# Altium footprint library ble_ac_rc_lib.PcbLib: 62 footprints (part 3 of 4)
Each footprint in its own frame and in the unit in brackets; x right, y up, seen from the top. Pads: shape width x height; smd on the part's side, far side on the other; paste and mask are expansions set on the pad; w line width, h text height; cw(c..) or ccw(c..) is an arc to the next point about the centre after c.
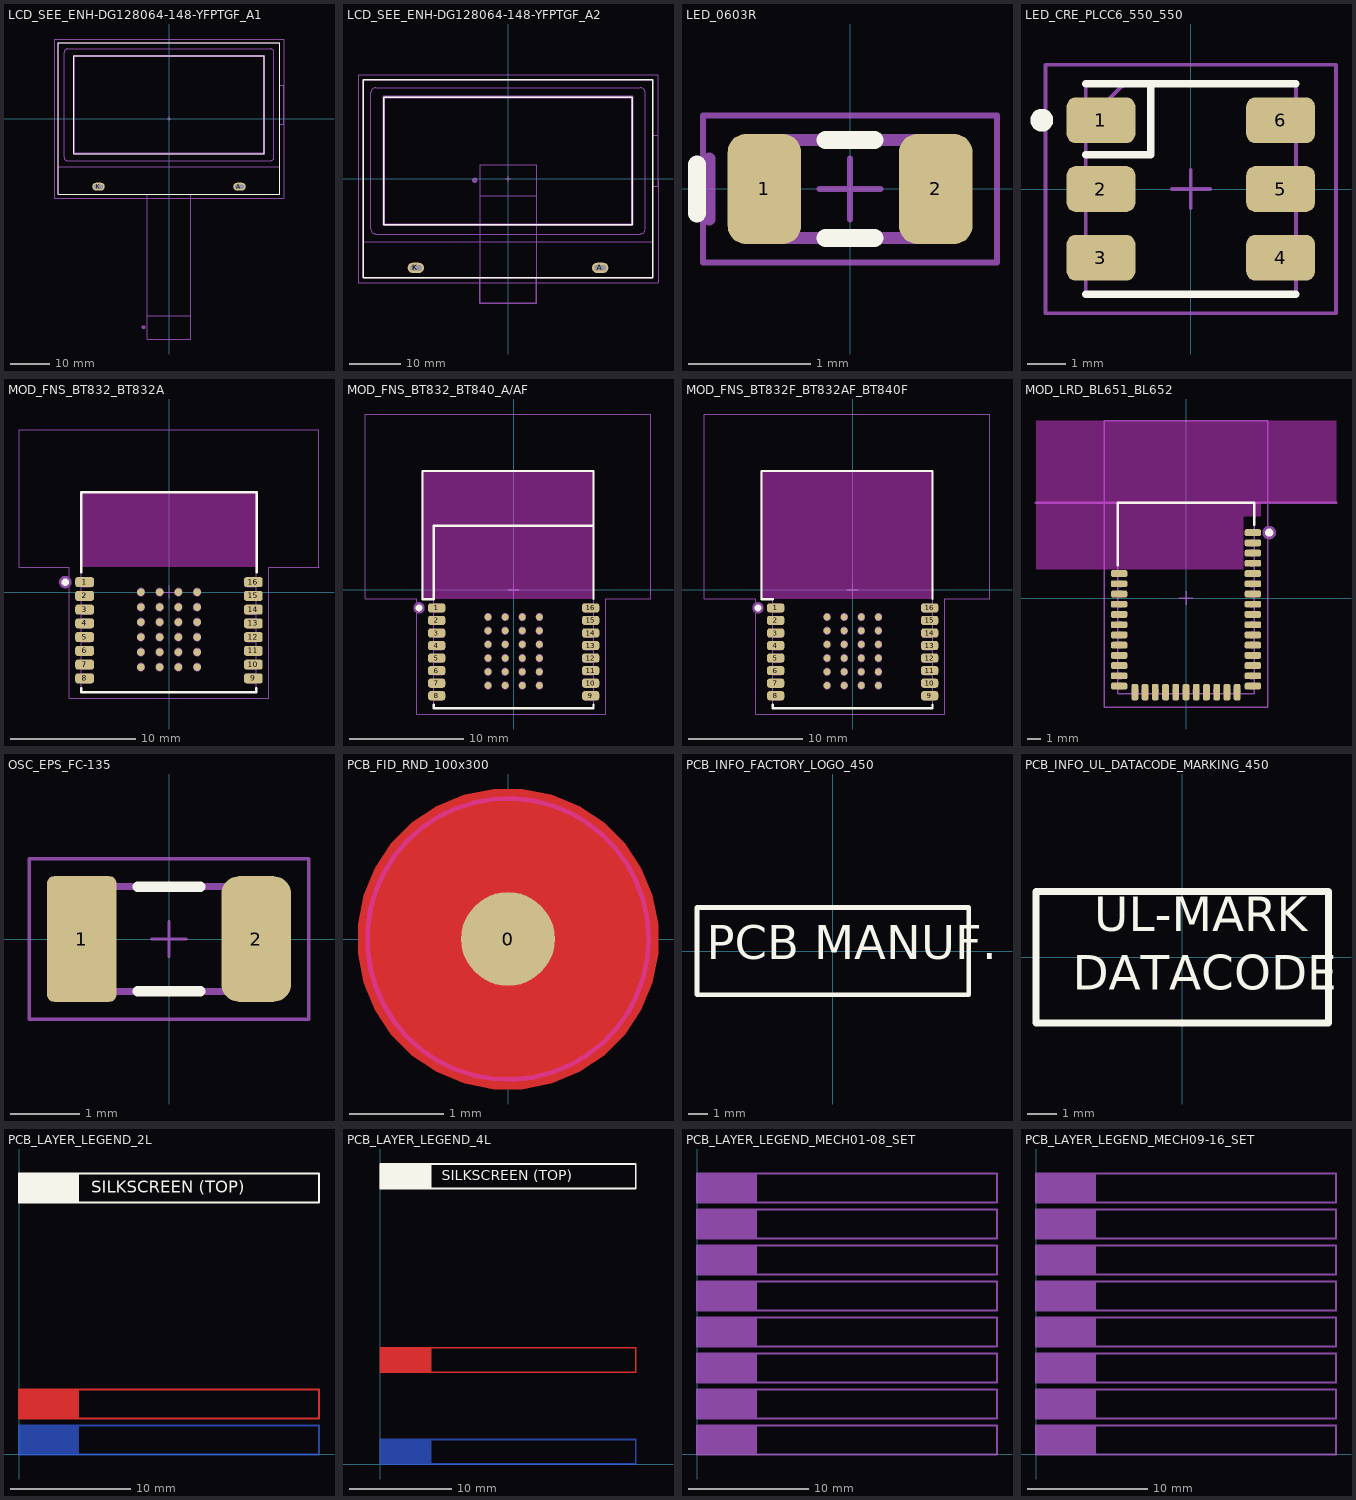
[diagram p2: the footprints below, top view; thin cyan lines are the x and y axes]

## LCD_SEE_ENH-DG128064-148-YFPTGF_A1 [mm]
pads (2):
  oval 3.2x2 hole 1 slot 2.2 at 0 deg: A(18,-17.4) K(-18,-17.4)
Silkscreen Top:
  lines w0.25: -28.3,-19.3 28.3,-19.3 28.3,19.3 -28.3,19.3 -28.3,-19.3 ; -24.305,-8.965 -24.305,15.965 24.305,15.965 24.305,-8.965 -24.305,-8.965
M17 3DBodyTop:
  circle w0.5: c-6.5,-53.3 r0.25
  lines w0.1: -5.5,-50.3 5.5,-50.3 ; -18.85,-17.7 -18.85,-17.1 -17.15,-17.1 -17.15,-17.7 -18.85,-17.7 ; -5.5,-56.3 -5.5,-19.3 5.5,-19.3 5.5,-56.3 -5.5,-56.3 ; 17.15,-17.7 18.85,-17.7 18.85,-17.1 17.15,-17.1 17.15,-17.7
  text "TOP CONTACTS" at -6.1,-58.5 h1
  text "1" at -5,-54.2 h1.5
  text "10" at 2.1,-54.2 h1.5
M21 AssemblyTHTTop:
  lines w0.1: -28.3,-12.3 28.3,-12.3 ; 28.3,-1.5 29.3,-1.5 29.3,8.5 28.3,8.5 ; -28.3,-19.3 -28.3,19.3 28.3,19.3 28.3,-19.3 -28.3,-19.3 ; -26.8,-9.8 ccw(c-25.8,-9.8) -25.8,-10.8 25.8,-10.8 ccw(c25.8,-9.8) 26.8,-9.8 26.8,16.8 ccw(c25.8,16.8) 25.8,17.8 -25.8,17.8 ccw(c-25.8,16.8) -26.8,16.8 -26.8,-9.8
  lines w0.5: -24.305,-8.965 24.305,-8.965 24.305,15.965 -24.305,15.965 -24.305,-8.965
  text ".Designator" at -12.7,-1 h3
M23 CourtyardTop:
  lines w0.1: -0.5,0 0.5,0 ; 0,-0.5 0,0.5 ; -29.3,-20.3 29.3,-20.3 29.3,20.3 -29.3,20.3 -29.3,-20.3
3D body: height 5.1, standoff 0, extent -28.3,-19.3 28.3,19.3

## LCD_SEE_ENH-DG128064-148-YFPTGF_A2 [mm]
pads (2):
  oval 3.2x2 hole 1 slot 2.2 at 0 deg: A(18,-17.4) K(-18,-17.4)
Silkscreen Top:
  lines w0.25: -28.3,-19.3 -28.3,19.3 28.3,19.3 28.3,-19.3 -28.3,-19.3 ; -24.305,-8.965 24.305,-8.965 24.305,15.965 -24.305,15.965 -24.305,-8.965
M17 3DBodyTop:
  lines w0.1: -5.5,-24.3 -5.5,-19.3 5.5,-19.3 5.5,-24.3 ; -18.85,-17.7 -17.15,-17.7 -17.15,-17.1 -18.85,-17.1 -18.85,-17.7 ; 17.15,-17.7 17.15,-17.1 18.85,-17.1 18.85,-17.7 17.15,-17.7
  lines w0.25: -5.5,-24.3 5.5,-24.3
  text "PCB EDGE" at -6,-27 h1.5
M18 3DBodyBot:
  circle w0.5: c-6.5,-0.3 r0.25
  lines w0.1: -5.5,-24.3 -5.5,2.7 5.5,2.7 5.5,-24.3 ; -5.5,-3.3 5.5,-3.3
  lines w0.25: -5.5,-24.3 5.5,-24.3
  text "PCB EDGE" at -6,-27 h1.5
  text "1" at -5,-1.2 h1.5
  text "10" at 2.1,-1.2 h1.5
  text "TOP CONTACTS" at -6.1,2.8 h1
M21 AssemblyTHTTop:
  lines w0.1: -28.3,-12.3 28.3,-12.3 ; 28.3,-1.5 29.3,-1.5 29.3,8.5 28.3,8.5 ; -28.3,-19.3 28.3,-19.3 28.3,19.3 -28.3,19.3 -28.3,-19.3 ; -26.8,-9.8 ccw(c-25.8,-9.8) -25.8,-10.8 25.8,-10.8 ccw(c25.8,-9.8) 26.8,-9.8 26.8,16.8 ccw(c25.8,16.8) 25.8,17.8 -25.8,17.8 ccw(c-25.8,16.8) -26.8,16.8 -26.8,-9.8
  lines w0.5: -24.305,-8.965 -24.305,15.965 24.305,15.965 24.305,-8.965 -24.305,-8.965
  text ".Designator" at -12.7,-1 h3
M23 CourtyardTop:
  lines w0.1: -0.5,0 0.5,0 ; 0,-0.5 0,0.5 ; -29.3,-20.3 -29.3,20.3 29.3,20.3 29.3,-20.3 -29.3,-20.3
3D body: height 5.1, standoff 0, extent -28.3,-19.3 28.3,19.3

## LED_0603R [mm]
pads (2):
  rrect50% 0.6x0.9 smd: 1(-0.7,0) 2(0.7,0)
Silkscreen Top:
  lines w0.15: -1.25,-0.2 -1.25,0.2 ; -0.2,-0.4 0.2,-0.4 ; -0.2,0.4 0.2,0.4
M19 AssemblySMDTop:
  lines w0.1: -1.15,-0.25 -1.15,0.25 ; -0.8,-0.4 0.8,-0.4 0.8,0.4 -0.8,0.4 -0.8,-0.4
  text ".Designator" at -0.6,-0.15 h0.4
M23 CourtyardTop:
  lines w0.05: -0.25,0 0.25,0 ; 0,-0.25 0,0.25 ; -1.2,-0.6 1.2,-0.6 1.2,0.6 -1.2,0.6 -1.2,-0.6
3D body "Wurth_WL-SMCD_0603.stp": height 0.4, standoff 0, extent -0.8,-0.4 0.8,0.4

## LED_CRE_PLCC6_550_550 [mm]
pads (6):
  rrect40% 1.8x1.2 smd: 1(-2.35,1.8) 2(-2.35,0) 3(-2.35,-1.8) 4(2.35,-1.8) 5(2.35,0) 6(2.35,1.8)
Silkscreen Top:
  circle w0.3: c-3.9,1.8 r0.15
  lines w0.2: -2.75,-2.75 2.75,-2.75 ; -2.75,0.9 -1.05,0.9 -1.05,2.75 ; -2.75,2.75 2.75,2.75
M19 AssemblySMDTop:
  lines w0.1: -2.75,1.75 -1.75,2.75 ; -2.75,-2.75 -2.75,2.75 2.75,2.75 2.75,-2.75 -2.75,-2.75
  text ".Designator" at -2.05,-0.45 h1.2
M23 CourtyardTop:
  lines w0.1: -0.5,0 0.5,0 ; 0,-0.5 0,0.5 ; -3.8,-3.25 3.8,-3.25 3.8,3.25 -3.8,3.25 -3.8,-3.25
3D body "CREE_SLV6A-FKB.step": height 2.6, standoff 0, extent -2.8,-2.8 2.8,2.8

## MOD_FNS_BT832_BT832A [mm]
pads (40):
  rrect50% 1.5x0.8 smd: 1(-6.75,0.8) 2(-6.75,-0.3) 3(-6.75,-1.4) 4(-6.75,-2.5) 5(-6.75,-3.6) 6(-6.75,-4.7) 7(-6.75,-5.8) 8(-6.75,-6.9) 9(6.75,-6.9) 10(6.75,-5.8) 11(6.75,-4.7) 12(6.75,-3.6) 13(6.75,-2.5) 14(6.75,-1.4) 15(6.75,-0.3) 16(6.75,0.8)
  round 0.6 smd: A0(-2.25,0) A1(-2.25,-1.2) A2(-2.25,-2.4) A3(-2.25,-3.6) A4(-2.25,-4.8) A5(-2.25,-6) B0(-0.75,0) B1(-0.75,-1.2) B2(-0.75,-2.4) B3(-0.75,-3.6) B4(-0.75,-4.8) B5(-0.75,-6) C0(0.75,0) C1(0.75,-1.2) C2(0.75,-2.4) C3(0.75,-3.6) C4(0.75,-4.8) C5(0.75,-6) D0(2.25,0) D1(2.25,-1.2) D2(2.25,-2.4) D3(2.25,-3.6) D4(2.25,-4.8) D5(2.25,-6)
Silkscreen Top:
  circle w0.3: c-8.3,0.8 r0.15
  lines w0.2: -7,-7.7 -7,-8 7,-8 7,-7.7 ; -7,1.6 -7,8 7,8 7,1.6
Keep-Out Layer:
  rectangle: -7,2 7,8
M19 AssemblySMDTop:
  circle w0.1: c-0.75,0 r0.3
  circle w0.1: c-0.75,-6 r0.3
  circle w0.1: c-0.75,-3.6 r0.3
  circle w0.1: c-0.75,-1.2 r0.3
  circle w0.1: c-0.75,-2.4 r0.3
  circle w0.1: c-0.75,-4.8 r0.3
  circle w0.1: c2.25,0 r0.3
  circle w0.1: c2.25,-6 r0.3
  circle w0.1: c2.25,-3.6 r0.3
  circle w0.1: c0.75,0 r0.3
  circle w0.1: c0.75,-6 r0.3
  circle w0.1: c0.75,-3.6 r0.3
  circle w0.1: c-2.25,0 r0.3
  circle w0.1: c-2.25,-6 r0.3
  circle w0.1: c-2.25,-3.6 r0.3
  circle w0.1: c2.25,-1.2 r0.3
  circle w0.1: c2.25,-2.4 r0.3
  circle w0.1: c2.25,-4.8 r0.3
  circle w0.1: c0.75,-1.2 r0.3
  circle w0.1: c0.75,-2.4 r0.3
  circle w0.1: c0.75,-4.8 r0.3
  circle w0.1: c-2.25,-1.2 r0.3
  circle w0.1: c-2.25,-2.4 r0.3
  circle w0.1: c-2.25,-4.8 r0.3
  circle w0.5: c-8.3,0.8 r0.25
  lines w0.1: -7,-7.25 -6.25,-7.25 -6.25,-6.55 -7,-6.55 ; -7,-6.15 -6.25,-6.15 -6.25,-5.45 -7,-5.45 ; -7,-5.05 -6.25,-5.05 -6.25,-4.35 -7,-4.35 ; -7,-3.95 -6.25,-3.95 -6.25,-3.25 -7,-3.25 ; -7,-2.85 -6.25,-2.85 -6.25,-2.15 -7,-2.15 ; -7,-1.75 -6.25,-1.75 -6.25,-1.05 -7,-1.05 ; -7,-0.65 -6.25,-0.65 -6.25,0.05 -7,0.05 ; -7,0.45 -6.25,0.45 -6.25,1.15 -7,1.15 ; 7,-7.25 6.25,-7.25 6.25,-6.55 7,-6.55 ; 7,-6.15 6.25,-6.15 6.25,-5.45 7,-5.45 ; 7,-5.05 6.25,-5.05 6.25,-4.35 7,-4.35 ; 7,-3.95 6.25,-3.95 6.25,-3.25 7,-3.25 ; 7,-2.85 6.25,-2.85 6.25,-2.15 7,-2.15 ; 7,-1.75 6.25,-1.75 6.25,-1.05 7,-1.05 ; 7,-0.65 6.25,-0.65 6.25,0.05 7,0.05 ; 7,0.45 6.25,0.45 6.25,1.15 7,1.15 ; -7,-8 7,-8 7,8 -7,8 -7,-8
  text ".Designator" at -4.45,2.2 h1
M23 CourtyardTop:
  lines w0.1: -0.5,0 0.5,0 ; 0,-0.5 0,0.5 ; -12,2 -8,2 -8,-8.5 8,-8.5 8,2 12,2 12,13 -12,13 -12,2
3D body "bt832_bt832a_bt840.stp": height 2.05, standoff 0.05, extent -7,-8 7,8

## MOD_FNS_BT832_BT840_A/AF [mm]
pads (40):
  rrect50% 1.5x0.8 smd: 1(-6.75,-1.6) 2(-6.75,-2.7) 3(-6.75,-3.8) 4(-6.75,-4.9) 5(-6.75,-6) 6(-6.75,-7.1) 7(-6.75,-8.2) 8(-6.75,-9.3) 9(6.75,-9.3) 10(6.75,-8.2) 11(6.75,-7.1) 12(6.75,-6) 13(6.75,-4.9) 14(6.75,-3.8) 15(6.75,-2.7) 16(6.75,-1.6)
  round 0.6 smd: A0(-2.25,-2.4) A1(-2.25,-3.6) A2(-2.25,-4.8) A3(-2.25,-6) A4(-2.25,-7.2) A5(-2.25,-8.4) B0(-0.75,-2.4) B1(-0.75,-3.6) B2(-0.75,-4.8) B3(-0.75,-6) B4(-0.75,-7.2) B5(-0.75,-8.4) C0(0.75,-2.4) C1(0.75,-3.6) C2(0.75,-4.8) C3(0.75,-6) C4(0.75,-7.2) C5(0.75,-8.4) D0(2.25,-2.4) D1(2.25,-3.6) D2(2.25,-4.8) D3(2.25,-6) D4(2.25,-7.2) D5(2.25,-8.4)
Silkscreen Top:
  circle w0.3: c-8.3,-1.6 r0.15
  lines w0.2: -7,-10.1 -7,-10.4 7,-10.4 7,-10.1 ; -7,-0.83 -8,-0.83 -8,10.4 7,10.4 7,-0.8 ; -7,-0.8 -7,5.6 7,5.6
Keep-Out Layer:
  rectangle: -8,-0.8 7,10.4
M19 AssemblySMDTop:
  circle w0.1: c-0.75,-2.4 r0.3
  circle w0.1: c-0.75,-8.4 r0.3
  circle w0.1: c-0.75,-6 r0.3
  circle w0.1: c-0.75,-3.6 r0.3
  circle w0.1: c-0.75,-4.8 r0.3
  circle w0.1: c-0.75,-7.2 r0.3
  circle w0.1: c2.25,-2.4 r0.3
  circle w0.1: c2.25,-8.4 r0.3
  circle w0.1: c2.25,-6 r0.3
  circle w0.1: c0.75,-2.4 r0.3
  circle w0.1: c0.75,-8.4 r0.3
  circle w0.1: c0.75,-6 r0.3
  circle w0.1: c-2.25,-2.4 r0.3
  circle w0.1: c-2.25,-8.4 r0.3
  circle w0.1: c-2.25,-6 r0.3
  circle w0.1: c2.25,-3.6 r0.3
  circle w0.1: c2.25,-4.8 r0.3
  circle w0.1: c2.25,-7.2 r0.3
  circle w0.1: c0.75,-3.6 r0.3
  circle w0.1: c0.75,-4.8 r0.3
  circle w0.1: c0.75,-7.2 r0.3
  circle w0.1: c-2.25,-3.6 r0.3
  circle w0.1: c-2.25,-4.8 r0.3
  circle w0.1: c-2.25,-7.2 r0.3
  circle w0.5: c-8.3,-1.6 r0.25
  lines w0.1: -7,-9.65 -6.25,-9.65 -6.25,-8.95 -7,-8.95 ; -7,-8.55 -6.25,-8.55 -6.25,-7.85 -7,-7.85 ; -7,-7.45 -6.25,-7.45 -6.25,-6.75 -7,-6.75 ; -7,-6.35 -6.25,-6.35 -6.25,-5.65 -7,-5.65 ; -7,-5.25 -6.25,-5.25 -6.25,-4.55 -7,-4.55 ; -7,-4.15 -6.25,-4.15 -6.25,-3.45 -7,-3.45 ; -7,-3.05 -6.25,-3.05 -6.25,-2.35 -7,-2.35 ; -7,-1.95 -6.25,-1.95 -6.25,-1.25 -7,-1.25 ; 7,-9.65 6.25,-9.65 6.25,-8.95 7,-8.95 ; 7,-8.55 6.25,-8.55 6.25,-7.85 7,-7.85 ; 7,-7.45 6.25,-7.45 6.25,-6.75 7,-6.75 ; 7,-6.35 6.25,-6.35 6.25,-5.65 7,-5.65 ; 7,-5.25 6.25,-5.25 6.25,-4.55 7,-4.55 ; 7,-4.15 6.25,-4.15 6.25,-3.45 7,-3.45 ; 7,-3.05 6.25,-3.05 6.25,-2.35 7,-2.35 ; 7,-1.95 6.25,-1.95 6.25,-1.25 7,-1.25 ; 7,5.6 -7,5.6 -7,-0.83 ; -7,-0.83 -7,-10.4 7,-10.4 7,10.4 -8,10.4 -8,-0.83 -7,-0.83
  text ".Designator" at -4.45,-0.2 h1
M23 CourtyardTop:
  lines w0.1: -0.5,0 0.5,0 ; 0,-0.5 0,0.5 ; -13,-0.8 -8.5,-0.8 -8.5,-10.9 8.05,-10.9 8.05,-0.8 12,-0.8 12,15.4 -13,15.4 -13,-0.8
3D body "bt832f_bt832af_bt840f.stp": height 2.05, standoff 0.05, extent -8,-10.4 7,10.4

## MOD_FNS_BT832F_BT832AF_BT840F [mm]
pads (40):
  rrect50% 1.5x0.8 smd: 1(-6.75,-1.6) 2(-6.75,-2.7) 3(-6.75,-3.8) 4(-6.75,-4.9) 5(-6.75,-6) 6(-6.75,-7.1) 7(-6.75,-8.2) 8(-6.75,-9.3) 9(6.75,-9.3) 10(6.75,-8.2) 11(6.75,-7.1) 12(6.75,-6) 13(6.75,-4.9) 14(6.75,-3.8) 15(6.75,-2.7) 16(6.75,-1.6)
  round 0.6 smd: A0(-2.25,-2.4) A1(-2.25,-3.6) A2(-2.25,-4.8) A3(-2.25,-6) A4(-2.25,-7.2) A5(-2.25,-8.4) B0(-0.75,-2.4) B1(-0.75,-3.6) B2(-0.75,-4.8) B3(-0.75,-6) B4(-0.75,-7.2) B5(-0.75,-8.4) C0(0.75,-2.4) C1(0.75,-3.6) C2(0.75,-4.8) C3(0.75,-6) C4(0.75,-7.2) C5(0.75,-8.4) D0(2.25,-2.4) D1(2.25,-3.6) D2(2.25,-4.8) D3(2.25,-6) D4(2.25,-7.2) D5(2.25,-8.4)
Silkscreen Top:
  circle w0.3: c-8.3,-1.6 r0.15
  lines w0.2: -7,-10.1 -7,-10.4 7,-10.4 7,-10.1 ; -7,-0.83 -8,-0.83 -8,10.4 7,10.4 7,-0.8
Keep-Out Layer:
  rectangle: -8,-0.8 7,10.4
M19 AssemblySMDTop:
  circle w0.1: c-0.75,-2.4 r0.3
  circle w0.1: c-0.75,-8.4 r0.3
  circle w0.1: c-0.75,-6 r0.3
  circle w0.1: c-0.75,-3.6 r0.3
  circle w0.1: c-0.75,-4.8 r0.3
  circle w0.1: c-0.75,-7.2 r0.3
  circle w0.1: c2.25,-2.4 r0.3
  circle w0.1: c2.25,-8.4 r0.3
  circle w0.1: c2.25,-6 r0.3
  circle w0.1: c0.75,-2.4 r0.3
  circle w0.1: c0.75,-8.4 r0.3
  circle w0.1: c0.75,-6 r0.3
  circle w0.1: c-2.25,-2.4 r0.3
  circle w0.1: c-2.25,-8.4 r0.3
  circle w0.1: c-2.25,-6 r0.3
  circle w0.1: c2.25,-3.6 r0.3
  circle w0.1: c2.25,-4.8 r0.3
  circle w0.1: c2.25,-7.2 r0.3
  circle w0.1: c0.75,-3.6 r0.3
  circle w0.1: c0.75,-4.8 r0.3
  circle w0.1: c0.75,-7.2 r0.3
  circle w0.1: c-2.25,-3.6 r0.3
  circle w0.1: c-2.25,-4.8 r0.3
  circle w0.1: c-2.25,-7.2 r0.3
  circle w0.5: c-8.3,-1.6 r0.25
  lines w0.1: -7,-9.65 -6.25,-9.65 -6.25,-8.95 -7,-8.95 ; -7,-8.55 -6.25,-8.55 -6.25,-7.85 -7,-7.85 ; -7,-7.45 -6.25,-7.45 -6.25,-6.75 -7,-6.75 ; -7,-6.35 -6.25,-6.35 -6.25,-5.65 -7,-5.65 ; -7,-5.25 -6.25,-5.25 -6.25,-4.55 -7,-4.55 ; -7,-4.15 -6.25,-4.15 -6.25,-3.45 -7,-3.45 ; -7,-3.05 -6.25,-3.05 -6.25,-2.35 -7,-2.35 ; -7,-1.95 -6.25,-1.95 -6.25,-1.25 -7,-1.25 ; 7,-9.65 6.25,-9.65 6.25,-8.95 7,-8.95 ; 7,-8.55 6.25,-8.55 6.25,-7.85 7,-7.85 ; 7,-7.45 6.25,-7.45 6.25,-6.75 7,-6.75 ; 7,-6.35 6.25,-6.35 6.25,-5.65 7,-5.65 ; 7,-5.25 6.25,-5.25 6.25,-4.55 7,-4.55 ; 7,-4.15 6.25,-4.15 6.25,-3.45 7,-3.45 ; 7,-3.05 6.25,-3.05 6.25,-2.35 7,-2.35 ; 7,-1.95 6.25,-1.95 6.25,-1.25 7,-1.25 ; -8,-0.83 -7,-0.83 -7,-10.4 7,-10.4 7,10.4 -8,10.4 -8,-0.83
  text ".Designator" at -4.45,-0.2 h1
M23 CourtyardTop:
  lines w0.1: -0.5,0 0.5,0 ; 0,-0.5 0,0.5 ; -13,-0.8 -8.5,-0.8 -8.5,-10.9 8.05,-10.9 8.05,-0.8 12,-0.8 12,15.4 -13,15.4 -13,-0.8
3D body "bt832f_bt832af_bt840f.stp": height 2.05, standoff 0.05, extent -8,-10.4 7,10.4

## MOD_LRD_BL651_BL652 [mm]
pads (39):
  rrect50% 1.2x0.5 smd: 1(4.9,4.8) 2(4.9,4.05) 3(4.9,3.3) 4(4.9,2.55) 5(4.9,1.8) 6(4.9,1.05) 7(4.9,0.3) 8(4.9,-0.45) 9(4.9,-1.2) 10(4.9,-1.95) 11(4.9,-2.7) 12(4.9,-3.45) 13(4.9,-4.2) 14(4.9,-4.95) 15(4.9,-5.7) 16(4.9,-6.45) 28(-4.9,-6.45) 29(-4.9,-5.7) 30(-4.9,-4.95) 31(-4.9,-4.2) 32(-4.9,-3.45) 33(-4.9,-2.7) 34(-4.9,-1.95) 35(-4.9,-1.2) 36(-4.9,-0.45) 37(-4.9,0.3) 38(-4.9,1.05) 39(-4.9,1.8)
  rrect50% 0.5x1.2 smd: 17(3.75,-6.9) 18(3,-6.9) 19(2.25,-6.9) 20(1.5,-6.9) 21(0.75,-6.9) 22(0,-6.9) 23(-0.75,-6.9) 24(-1.5,-6.9) 25(-2.25,-6.9) 26(-3,-6.9) 27(-3.75,-6.9)
Silkscreen Top:
  circle w0.3: c6.1,4.8 r0.15
  lines w0.2: -5,2.4 -5,7 5,7 5,5.4
Keep-Out Layer:
  rectangle: -5.5,6 5.5,13
  region: -11,13 -11,2.1 4.2,2.1 4.2,7 11,7 11,13
M17 3DBodyTop:
  lines w0.2: -11,7 11,7
  text "Host board edge" at -7.7,7.1 h1
M19 AssemblySMDTop:
  circle w0.5: c6.1,4.8 r0.25
  lines w0.1: -5,-6.65 -4.7,-6.65 -4.7,-6.25 -5,-6.25 ; -5,-5.9 -4.7,-5.9 -4.7,-5.5 -5,-5.5 ; -5,-5.15 -4.7,-5.15 -4.7,-4.75 -5,-4.75 ; -5,-4.4 -4.7,-4.4 -4.7,-4 -5,-4 ; -5,-3.65 -4.7,-3.65 -4.7,-3.25 -5,-3.25 ; -5,-2.9 -4.7,-2.9 -4.7,-2.5 -5,-2.5 ; -5,-2.15 -4.7,-2.15 -4.7,-1.75 -5,-1.75 ; -5,-1.4 -4.7,-1.4 -4.7,-1 -5,-1 ; -5,-0.65 -4.7,-0.65 -4.7,-0.25 -5,-0.25 ; -5,0.1 -4.7,0.1 -4.7,0.5 -5,0.5 ; -5,0.85 -4.7,0.85 -4.7,1.25 -5,1.25 ; -5,1.6 -4.7,1.6 -4.7,2 -5,2 ; -3.95,-7 -3.95,-6.7 -3.55,-6.7 -3.55,-7 ; -3.2,-7 -3.2,-6.7 -2.8,-6.7 -2.8,-7 ; -2.45,-7 -2.45,-6.7 -2.05,-6.7 -2.05,-7 ; -1.7,-7 -1.7,-6.7 -1.3,-6.7 -1.3,-7 ; -0.95,-7 -0.95,-6.7 -0.55,-6.7 -0.55,-7 ; -0.2,-7 -0.2,-6.7 0.2,-6.7 0.2,-7 ; 0.55,-7 0.55,-6.7 0.95,-6.7 0.95,-7 ; 1.3,-7 1.3,-6.7 1.7,-6.7 1.7,-7 ; 2.05,-7 2.05,-6.7 2.45,-6.7 2.45,-7 ; 2.8,-7 2.8,-6.7 3.2,-6.7 3.2,-7 ; 3.55,-7 3.55,-6.7 3.95,-6.7 3.95,-7 ; 5,-6.65 4.7,-6.65 4.7,-6.25 5,-6.25 ; 5,-5.9 4.7,-5.9 4.7,-5.5 5,-5.5 ; 5,-5.15 4.7,-5.15 4.7,-4.75 5,-4.75 ; 5,-4.4 4.7,-4.4 4.7,-4 5,-4 ; 5,-3.65 4.7,-3.65 4.7,-3.25 5,-3.25 ; 5,-2.9 4.7,-2.9 4.7,-2.5 5,-2.5 ; 5,-2.15 4.7,-2.15 4.7,-1.75 5,-1.75 ; 5,-1.4 4.7,-1.4 4.7,-1 5,-1 ; 5,-0.65 4.7,-0.65 4.7,-0.25 5,-0.25 ; 5,0.1 4.7,0.1 4.7,0.5 5,0.5 ; 5,0.85 4.7,0.85 4.7,1.25 5,1.25 ; 5,1.6 4.7,1.6 4.7,2 5,2 ; 5,2.35 4.7,2.35 4.7,2.75 5,2.75 ; 5,3.1 4.7,3.1 4.7,3.5 5,3.5 ; 5,3.85 4.7,3.85 4.7,4.25 5,4.25 ; 5,4.6 4.7,4.6 4.7,5 5,5 ; -5,-7 5,-7 5,7 -5,7 -5,-7
  text ".Designator" at -3.95,-0.35 h1
M23 CourtyardTop:
  lines w0.1: -0.5,0 0.5,0 ; 0,-0.5 0,0.5 ; -6,-8 -6,13 6,13 6,-8 -6,-8
3D body "Laird_BL652_SA.STEP": height 2.1, standoff 0, extent -5,-7 5,7

## OSC_EPS_FC-135 [mm]
pads (2):
  rrect20% 1x1.8 smd: 1(-1.25,0)
  rrect50% 1x1.8 smd: 2(1.25,0)
Silkscreen Top:
  lines w0.15: -0.45,-0.75 0.45,-0.75 ; -0.45,0.75 0.45,0.75
M19 AssemblySMDTop:
  lines w0.1: -1.6,-0.75 -1.6,0.75 1.6,0.75 1.6,-0.75 -1.6,-0.75
  text ".Designator" at -1.25,-0.4 h0.8
M23 CourtyardTop:
  lines w0.05: -0.25,0 0.25,0 ; 0,-0.25 0,0.25 ; -2,-1.15 2,-1.15 2,1.15 -2,1.15 -2,-1.15
3D body "OSC_FC-135.step": height 0.8, standoff 0, extent -1.6,-0.75 1.6,0.75

## PCB_FID_RND_100x300 [mm]
pads (1):
  round 1 smd paste-10 mask+1: 0(0,0)
Layer Top:
  pour cut-out: -1.6,0 -1.6,-0.158 -1.539,-0.467 -1.418,-0.758 -1.243,-1.02 -1.02,-1.243 -0.758,-1.418 -0.467,-1.539 -0.158,-1.6 0,-1.6 0.158,-1.6 0.467,-1.539 0.758,-1.418 1.02,-1.243 1.243,-1.02 1.418,-0.758 1.539,-0.467 1.6,-0.158 1.6,0 1.6,0.158 1.539,0.467 1.418,0.758 1.243,1.02 1.02,1.243 0.758,1.418 0.467,1.539 0.158,1.6 0,1.6 -0.158,1.6 -0.467,1.539 -0.758,1.418 -1.02,1.243 -1.243,1.02 -1.418,0.758 -1.539,0.467 -1.6,0.158
Layer Top keep-out:
  circle w0.05: c0,0 r1.5
L23-Paste Mask Top (Multiple PADS layers...):
  pour cut-out: 0,1.6

## PCB_INFO_FACTORY_LOGO_450 [mm]
Silkscreen Top:
  lines w0.25: -7,-2.25 -7,2.25 7,2.25 7,-2.25 -7,-2.25
  text "PCB MANUF." at -6.5,-1 h3

## PCB_INFO_UL_DATACODE_MARKING_450 [mm]
Silkscreen Top:
  lines w0.25: -5,-2.25 -5,2.25 5,2.25 5,-2.25 -5,-2.25
  text "UL-MARK" at -3,0.5 h2
  text "DATACODE" at -3.75,-1.5 h2

## PCB_LAYER_LEGEND_2L [mm]
Layer Top:
  rectangle: 0,3 5,5.4
  lines w0.15: 0,3 25,3 25,5.4 0,5.4 0,3
  text "LAYER L1 (TOP)" at 6,3.8 h1
Layer Bottom:
  rectangle: 0,0 5,2.4
  lines w0.15: 0,0 0,2.4 25,2.4 25,0 0,0
  text "LAYER L2 (BOT)" at 6,0.8 h1
Silkscreen Top:
  rectangle: 0,21 5,23.4
  lines w0.15: 0,21 25,21 25,23.4 0,23.4 0,21
  text "SILKSCREEN (TOP)" at 6,21.8 h1
Silkscreen Bottom:
  rectangle: 0,18 5,20.4
  lines w0.15: 0,18 25,18 25,20.4 0,20.4 0,18
  text "SILKSCREEN (BOT)" at 6,18.8 h1
L23-Paste Mask Top (Multiple PADS layers...):
  rectangle: 0,9 5,11.4
  lines w0.15: 0,9 25,9 25,11.4 0,11.4 0,9
  text "PASTEMASK (TOP)" at 6,9.8 h1
L22-Paste Mask Bottom (Multiple PADS layers...):
  rectangle: 0,6 5,8.4
  lines w0.15: 0,6 25,6 25,8.4 0,8.4 0,6
  text "PASTEMASK (BOT)" at 6,6.8 h1
Soldermask Top:
  rectangle: 0,15 5,17.4
  lines w0.15: 0,15 25,15 25,17.4 0,17.4 0,15
  text "SOLDERMASK (TOP)" at 6,15.8 h1
Soldermask Bottom:
  rectangle: 0,12 5,14.4
  lines w0.15: 0,12 25,12 25,14.4 0,14.4 0,12
  text "SOLDERMASK (BOT)" at 6,12.8 h1

## PCB_LAYER_LEGEND_4L [mm]
Layer Top:
  rectangle: 0,9 5,11.4
  lines w0.15: 0,9 25,9 25,11.4 0,11.4 0,9
  text "LAYER L1 (TOP)" at 6,9.8 h1
L2:
  rectangle: 0,6 5,8.4
  lines w0.15: 0,6 0,8.4 25,8.4 25,6 0,6
  text "LAYER L2" at 6,6.8 h1
L3:
  rectangle: 0,3 5,5.4
  lines w0.15: 0,3 0,5.4 25,5.4 25,3 0,3
  text "LAYER L3" at 6,3.8 h1
Layer Bottom:
  rectangle: 0,0 5,2.4
  lines w0.15: 0,0 0,2.4 25,2.4 25,0 0,0
  text "LAYER L4 (BOT)" at 6,0.8 h1
Silkscreen Top:
  rectangle: 0,27 5,29.4
  lines w0.15: 0,27 25,27 25,29.4 0,29.4 0,27
  text "SILKSCREEN (TOP)" at 6,27.8 h1
Silkscreen Bottom:
  rectangle: 0,24 5,26.4
  lines w0.15: 0,24 25,24 25,26.4 0,26.4 0,24
  text "SILKSCREEN (BOT)" at 6,24.8 h1
L23-Paste Mask Top (Multiple PADS layers...):
  rectangle: 0,15 5,17.4
  lines w0.15: 0,15 25,15 25,17.4 0,17.4 0,15
  text "PASTEMASK (TOP)" at 6,15.8 h1
L22-Paste Mask Bottom (Multiple PADS layers...):
  rectangle: 0,12 5,14.4
  lines w0.15: 0,12 25,12 25,14.4 0,14.4 0,12
  text "PASTEMASK (BOT)" at 6,12.8 h1
Soldermask Top:
  rectangle: 0,21 5,23.4
  lines w0.15: 0,21 25,21 25,23.4 0,23.4 0,21
  text "SOLDERMASK (TOP)" at 6,21.8 h1
Soldermask Bottom:
  rectangle: 0,18 5,20.4
  lines w0.15: 0,18 25,18 25,20.4 0,20.4 0,18
  text "SOLDERMASK (BOT)" at 6,18.8 h1

## PCB_LAYER_LEGEND_MECH01-08_SET [mm]
M01:
  rectangle: 0,0 5,2.4
  lines w0.15: 0,0 25,0 25,2.4 0,2.4 0,0
  text "(M1) Board Outline" at 6,0.8 h1
M02:
  rectangle: 0,3 5,5.4
  lines w0.15: 0,3 25,3 25,5.4 0,5.4 0,3
  text "(M2) Panel Outline" at 6,3.8 h1
M03:
  rectangle: 0,6 5,8.4
  lines w0.15: 0,6 25,6 25,8.4 0,8.4 0,6
  text "(M3) V-Cut" at 6,6.8 h1
M04:
  rectangle: 0,9 5,11.4
  lines w0.15: 0,9 0,11.4 25,11.4 25,9 0,9
  text "(M4) Milling Non-Plated" at 6,9.8 h1
M05:
  rectangle: 0,12 5,14.4
  lines w0.15: 0,12 25,12 25,14.4 0,14.4 0,12
  text "(M5) Milling Plated" at 6,12.8 h1
M06:
  rectangle: 0,15 5,17.4
  lines w0.15: 0,15 25,15 25,17.4 0,17.4 0,15
  text "(M6) Slots" at 6,15.8 h1
M07:
  rectangle: 0,18 5,20.4
  lines w0.15: 0,18 0,20.4 25,20.4 25,18 0,18
  text "(M7) Peelable Mask" at 6,18.8 h1
M08:
  rectangle: 0,21 5,23.4
  lines w0.15: 0,21 0,23.4 25,23.4 25,21 0,21
  text "(M8) Carbon Ink" at 6,21.8 h1

## PCB_LAYER_LEGEND_MECH09-16_SET [mm]
M09:
  rectangle: 0,0 5,2.4
  lines w0.15: 0,0 0,2.4 25,2.4 25,0 0,0
  text "(M9) Silkscreen Additional" at 6,0.8 h1
M10:
  rectangle: 0,3 5,5.4
  lines w0.15: 0,3 0,5.4 25,5.4 25,3 0,3
  text "(M10) Dimensions" at 6,3.8 h1
M11:
  rectangle: 0,6 5,8.4
  lines w0.15: 0,6 0,8.4 25,8.4 25,6 0,6
  text "(M11) PCB Specification" at 6,6.8 h1
M12:
  rectangle: 0,9 5,11.4
  lines w0.15: 0,9 25,9 25,11.4 0,11.4 0,9
  text "(M12) Info Assembly TOP" at 6,9.8 h1
M13:
  rectangle: 0,12 5,14.4
  lines w0.15: 0,12 0,14.4 25,14.4 25,12 0,12
  text "(M13) Info Assembly BOT" at 6,12.8 h1
M14:
  rectangle: 0,15 5,17.4
  lines w0.15: 0,15 0,17.4 25,17.4 25,15 0,15
  text "(M14) CAD Import" at 6,15.8 h1
M15:
  rectangle: 0,18 5,20.4
  lines w0.15: 0,18 25,18 25,20.4 0,20.4 0,18
  text "(M15) Reserved" at 6,18.8 h1
M16:
  rectangle: 0,21 5,23.4
  lines w0.15: 0,21 25,21 25,23.4 0,23.4 0,21
  text "(M16) Sheet Template" at 6,21.8 h1